# Altium schematic symbol library Schlib.SchLib: 15 symbols
Pins are listed as number, name and electrical type; pins without a type are passive.

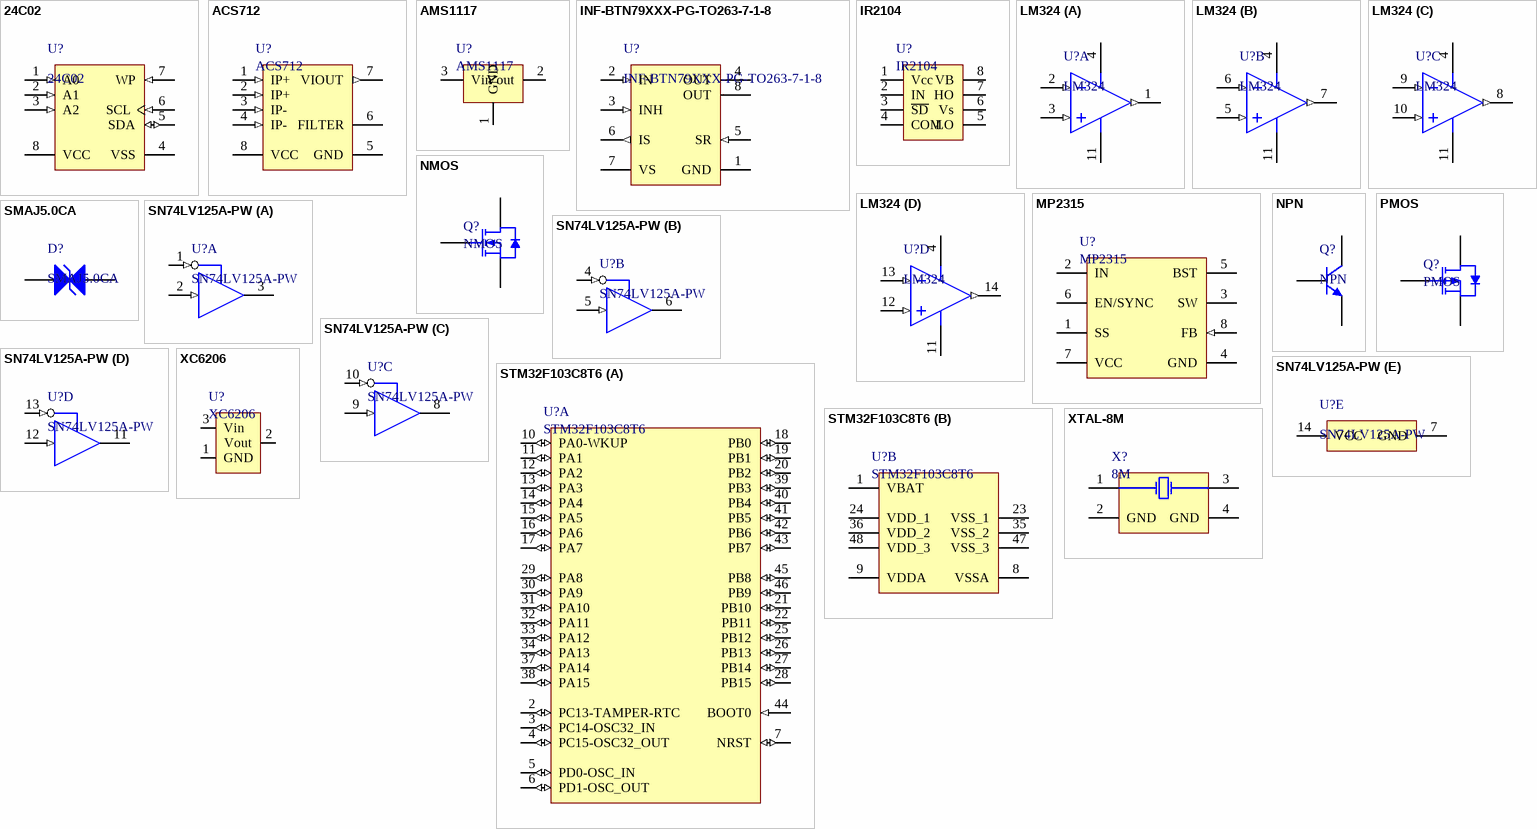
[diagram p0: symbols 24C02 to XTAL-8M]

## 24C02
designator U?
footprint SOP-8
pins: 1 A0 (in), 2 A1 (in), 3 A2 (in), 4 VSS (power), 5 SDA (io), 6 SCL (in), 7 WP (in), 8 VCC (power)

## ACS712
designator U?
footprint SOP-8
pins: 1 IP+ (in) "Terminals for current being sampled; fused internally", 2 IP+ (in) "Terminals for current being sampled; fused internally", 3 IP- (in) "Terminals for current being sampled; fused internally", 4 IP- (in) "Terminals for current being sampled; fused internally", 5 GND (power) "Signal ground terminal", 6 FILTER "Terminal for external capacitor that sets bandwidth", 7 VIOUT (out) "Analog output signal", 8 VCC (power) "Device power supply terminal"

## AMS1117
designator U?
footprint SOT-89
pins: 1 GND, 2 Vout, 3 Vin

## INF-BTN79XXX-PG-TO263-7-1-8
designator U?
footprint INF-PG-TO263-7-1_L - Cloned (DPAK, 8-Leads, Body 10x9.25mm, Pitch 1.27mm, IPC High Density)
pins: 1 GND (power) "Ground", 2 IN (in) "Input Defines whether high- or lowside switch is activated", 3 INH (in) "Inhibit When set to low device goes in sleep mode", 4 OUT (power) "Power output of the bridge", 5 SR (in) "Slew Rate The slew rate of the power switches can be adjusted by connecting a resistor between SR and GND", 6 IS (out) "Current Sense and Diagnostics", 7 VS (power) "Supply", 8 OUT (power) "Power output of the bridge"

## IR2104
designator U?
footprint SOP-8
pins: 1 Vcc, 2 IN, 3 ~{SD}, 4 COM, 5 LO, 6 Vs, 7 HO, 8 VB

## LM324
designator U?
footprint SOP-14 (SOIC, 14-Leads, Body 8.6x3.9mm, Pitch 1.27mm, IPC High Density)
pins on every part: 4 V+ (power), 11 GND (power)
part A pins: 1 OUT1 (out), 2 IN1- (in), 3 IN1+ (in)
part B pins: 5 IN2+ (in), 6 IN2- (in), 7 OUT2 (out)
part C pins: 8 OUT3 (out), 9 IN3- (in), 10 IN3+ (in)
part D pins: 12 IN4+ (in), 13 IN4- (in), 14 OUT4 (out)

## MP2315
designator U?
footprint TSOT23-8
pins: 1 SS "Soft-Start. Connect an external capacitor to program the soft start time for the switch mode regulator.", 2 IN (power) "Supply Voltage. The MP1496 operates from a 4.5V-to-16V input rail. C1 decouples the input rail. Use wide PCB trace to make the connection.", 3 SW "Switch Output. Connect using a wide PCB trace.", 4 GND (power) "System Ground. Reference ground of the regulated output voltage. Use special care in PCB layout: Connect to GND with copper and vias.", 5 BST "Bootstrap. Connect a capacitor between SW and BST pins to form a floating supply across the high-side switch driver. A 10ohm resistor placed between SW and BST cap. is strongly recommended to reduce SW spike voltage.", 6 EN/SYNC "Enable/Synchronize. EN high to enable the MP1496. Apply an external clock to EN/SYNC pin to change the switching frequency", 7 VCC (power) "Bias Supply. Decouple with 0.1uF-to-0.22uF cap. The capacitance should not exceed 0.22uF. VCC capacitor should be put closely to VCC pin and GND pin.", 8 FB (in) "Feedback. Connect to the tap of an external resistor divider from the output to GND to set the output voltage. The frequency fold-back comparator lowers the oscillator frequency when the FB voltage is below 400mV to prevent (See Datasheet)"

## NMOS
designator Q?
footprint TO-252
pins: 1 G, 2 S, 3 D

## NPN
designator Q?
footprint SOT23-3
pins: 1 B, 2 E, 3 C

## PMOS
designator Q?
footprint TO-252
pins: 1 G, 2 S, 3 D

## SMAJ5.0CA
designator D?
footprint DO-214AC (DO-214AC, 2-Leads, Body 4.5x2.79mm, IPC Medium Density)
pins: 1 A1, 2 A2

## SN74LV125A-PW
designator U?
footprint TSSOP-14 (SOP, 14-Leads, Body 5.1x4.5mm, Pitch 0.65mm, IPC Medium Density)
part A pins: 1 1~{OE} (in) "Output Enable 1", 2 1A (in) "1A Input", 3 1Y (hiz) "1Y Output"
part B pins: 4 2~{OE} (in) "Output Enable 2", 5 2A (in) "2A Input", 6 2Y (hiz) "2Y Output"
part C pins: 8 3Y (hiz) "3Y Output", 9 3A (in) "3A Input", 10 3~{OE} (in) "Output Enable 3"
part D pins: 11 4Y (hiz) "4Y Output", 12 4A (in) "4A Input", 13 4~{OE} (in) "Output Enable 4"
part E pins: 7 GND (power) "Ground Pin", 14 VCC (power) "Power Pin"

## STM32F103C8T6
designator U?
footprint STM-LQFP48-L
part A pins: 2 PC13-TAMPER-RTC (io) "PC13-TAMPER-RTC/PC13/TAMPER-RTC", 3 PC14-OSC32_IN (io) "PC14-OSC32_IN/PC14/OSC32_IN", 4 PC15-OSC32_OUT (io) "PC15-OSC32_OUT/PC15/OSC32_OUT", 5 PD0-OSC_IN (io) "PD0/OSC_IN", 6 PD1-OSC_OUT (io) "PD1/OSC_OUT", 7 NRST (io), 10 PA0-WKUP (io) "PA0-WKUP/PA0/WKUP/USART2_CTS/ADC12_IN0/TIM2_CH1_ETR", 11 PA1 (io) "PA1/USART2_RTS/ADC12_IN1/TIM2_CH2", 12 PA2 (io) "PA2/USART2_TX/ADC12_IN2/TIM2_CH3", 13 PA3 (io) "PA3/USART2_RX/ADC12_IN3/TIM2_CH4", 14 PA4 (io) "PA4/SPI1_NSS/USART2_CK/ADC12_IN4", 15 PA5 (io) "PA5/SPI1_SCK/ADC12_IN5", 16 PA6 (io) "PA6/SPI1_MISO/ADC12_IN6/TIM3_CH1/TIM1_BKIN", 17 PA7 (io) "PA7/SPI1_MOSI/ADC12_IN7/TIM3_CH2/TIM1_CH1N", 18 PB0 (io) "PB0/ADC12_IN8/TIM3_CH3/TIM1_CH2N", 19 PB1 (io) "PB1/ADC12_IN9/TIM3_CH4/TIM1_CH3N", 20 PB2 (io) "PB2/BOOT1", 21 PB10 (io) "PB10/I2C2_SCL/USART3_TX/TIM2_CH3", 22 PB11 (io) "PB11/I2C2_SDA/USART3_RX/TIM2_CH4", 25 PB12 (io) "PB12/SPI2_NSS/I2C2_SMBAl/USART3_CK/TIM1_BKIN", 26 PB13 (io) "PB13/SPI2_SCK/USART3_CTS/TIM1_CH1N", 27 PB14 (io) "PB14/SPI2_MISO/USART3_RTS/TIM1_CH2N", 28 PB15 (io) "PB15/SPI2_MOSI/TIM1_CH3N", 29 PA8 (io) "PA8/USART1_CK/TIM1_CH1/MCO", 30 PA9 (io) "PA9/USART1_TX/TIM1_CH2", 31 PA10 (io) "PA10/USART1_RX/TIM1_CH3", 32 PA11 (io) "PA11/USART1_CTS/CANRX/USBDM/TIM1_CH4", 33 PA12 (io) "PA12/USART1_RTS/CANTX/USBDP/TIM1_ETR", 34 PA13 (io) "PA13/JTMS/SWDIO", 37 PA14 (io) "PA14/JTCK/SWCLK", 38 PA15 (io) "PA15/JTDI/TIM2_CH1_ETR/SPI1_NSS", 39 PB3 (io) "PB3/JTDO/TIM2_CH2/TRACESWO/SPI1_SCK", 40 PB4 (io) "PB4/NJTRST/TIM3_CH1/SPI1_MISO", 41 PB5 (io) "PB5/I2C1_SMBAI/TIM3_CH2/SPI1_MOSI", 42 PB6 (io) "PB6/I2C1_SCL/TIM4_CH1/USART1_TX", 43 PB7 (io) "PB7/I2C1_SDA/TIM4_CH2/USART1_RX", 44 BOOT0 (in), 45 PB8 (io) "PB8/TIM4_CH3/I2C1_SCL/CANRX", 46 PB9 (io) "PB9/TIM4_CH4/I2C1_SDA/CANTX"
part B pins: 1 VBAT (power), 8 VSSA (power), 9 VDDA (power), 23 VSS_1 (power), 24 VDD_1 (power), 35 VSS_2 (power), 36 VDD_2 (power), 47 VSS_3 (power), 48 VDD_3 (power)

## XC6206
designator U?
footprint SOT23-3
pins: 1 GND, 2 Vout, 3 Vin

## XTAL-8M
designator X?, comment 8M
footprint XTAL-8M
pins: 1 X1, 2 GND (power), 3 X2, 4 GND (power)